# EAGLE library part HSP50214 (library hdsp)
Digital receiver chip
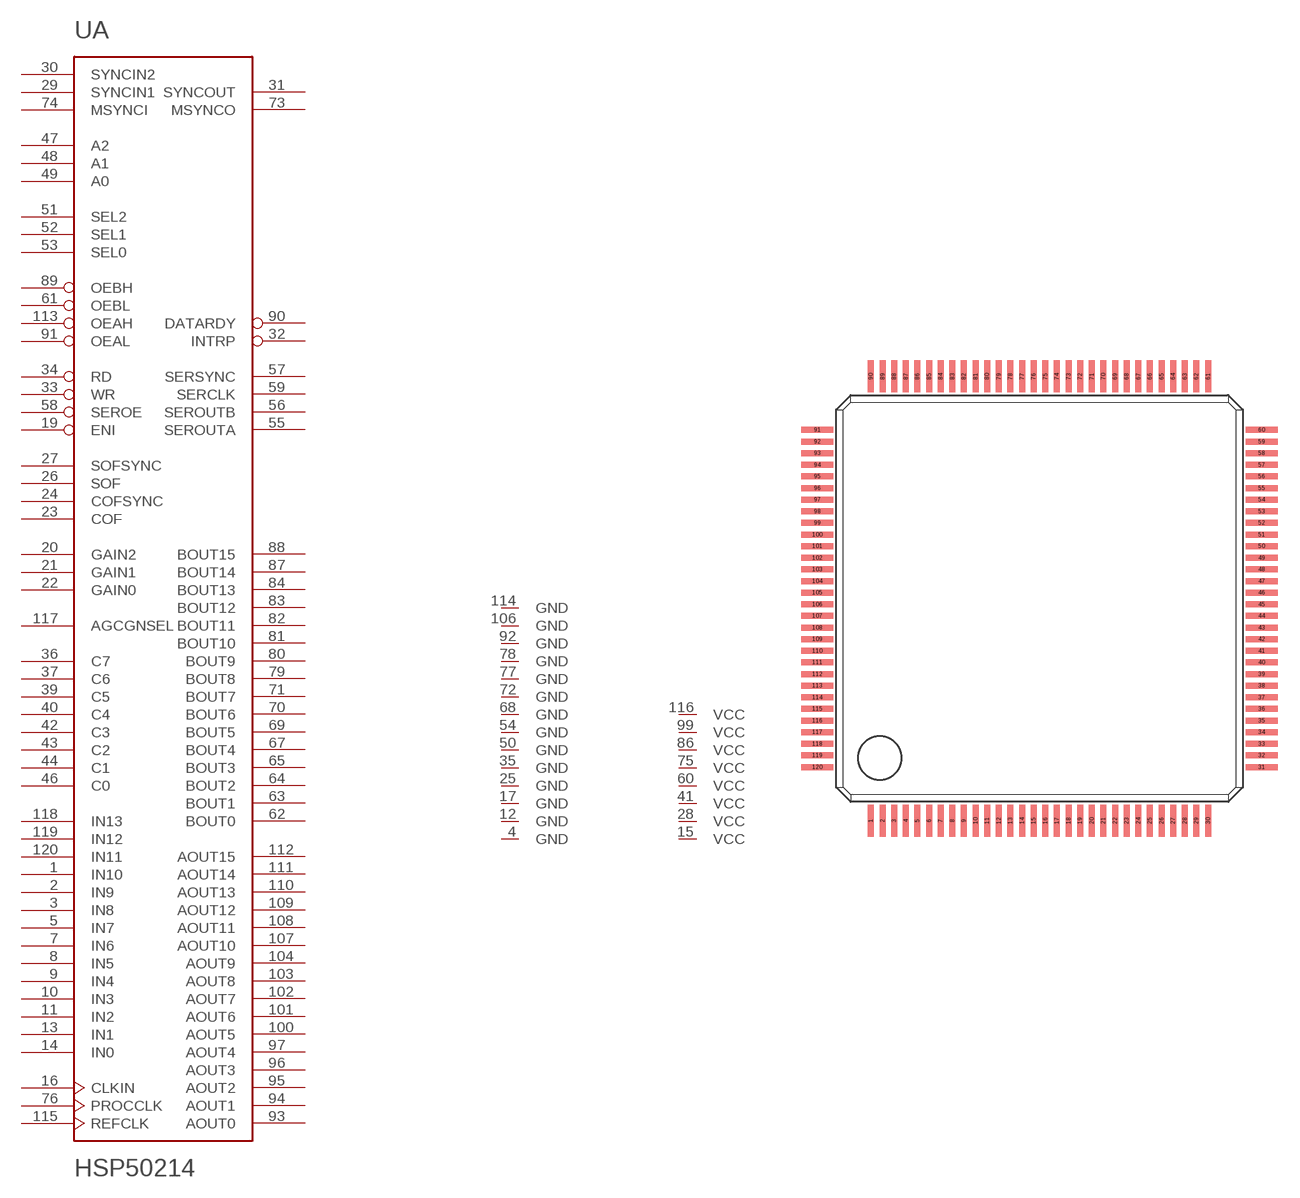
[diagram p0: symbol with the pads of QFP-120; footprint QFP-120]

Designator prefix U; gates A=HSP50214 P=P14-8

## HSP50214  [QFP-120]
1  A:IN10  in
2  A:IN9  in
3  A:IN8  in
4  P:GND  pwr
5  A:IN7  in
7  A:IN6  in
8  A:IN5  in
9  A:IN4  in
10  A:IN3  in
11  A:IN2  in
12  P:GND  pwr
13  A:IN1  in
14  A:IN0  in
15  P:VCC  pwr
16  A:CLKIN  in
17  P:GND  pwr
19  A:ENI  in
20  A:GAIN2  in
21  A:GAIN1  in
22  A:GAIN0  in
23  A:COF  in
24  A:COFSYNC  in
25  P:GND  pwr
26  A:SOF  in
27  A:SOFSYNC  in
28  P:VCC  pwr
29  A:SYNCIN1  in
30  A:SYNCIN2  in
31  A:SYNCOUT  out
32  A:INTRP  out
33  A:WR  in
34  A:RD  in
35  P:GND  pwr
36  A:C7
37  A:C6
39  A:C5
40  A:C4
41  P:VCC  pwr
42  A:C3
43  A:C2
44  A:C1
46  A:C0
47  A:A2  in
48  A:A1  in
49  A:A0  in
50  P:GND  pwr
51  A:SEL2  in
52  A:SEL1  in
53  A:SEL0  in
54  P:GND  pwr
55  A:SEROUTA  out
56  A:SEROUTB  out
57  A:SERSYNC  out
58  A:SEROE  in
59  A:SERCLK  out
60  P:VCC  pwr
61  A:OEBL  in
62  A:BOUT0  out
63  A:BOUT1  out
64  A:BOUT2  out
65  A:BOUT3  out
67  A:BOUT4  out
68  P:GND  pwr
69  A:BOUT5  out
70  A:BOUT6  out
71  A:BOUT7  out
72  P:GND  pwr
73  A:MSYNCO  out
74  A:MSYNCI  in
75  P:VCC  pwr
76  A:PROCCLK  in
77  P:GND  pwr
78  P:GND  pwr
79  A:BOUT8  out
80  A:BOUT9  out
81  A:BOUT10  out
82  A:BOUT11  out
83  A:BOUT12  out
84  A:BOUT13  out
86  P:VCC  pwr
87  A:BOUT14  out
88  A:BOUT15  out
89  A:OEBH  in
90  A:DATARDY  out
91  A:OEAL  in
92  P:GND  pwr
93  A:AOUT0  out
94  A:AOUT1  out
95  A:AOUT2  out
96  A:AOUT3  out
97  A:AOUT4  out
99  P:VCC  pwr
100  A:AOUT5  out
101  A:AOUT6  out
102  A:AOUT7  out
103  A:AOUT8  out
104  A:AOUT9  out
106  P:GND  pwr
107  A:AOUT10  out
108  A:AOUT11  out
109  A:AOUT12  out
110  A:AOUT13  out
111  A:AOUT14  out
112  A:AOUT15  out
113  A:OEAH  in
114  P:GND  pwr
115  A:REFCLK  in
116  P:VCC  pwr
117  A:AGCGNSEL  in
118  A:IN13  in
119  A:IN12  in
120  A:IN11  in

## Footprint QFP-120 (pad centres in mm)
smd 0.406 x 2.21: 1 -11.608,-15.291; 2 -10.795,-15.291; 3 -10.008,-15.291; 4 -9.195,-15.291; 5 -8.407,-15.291; 6 -7.595,-15.291; 7 -6.807,-15.291; 8 -5.994,-15.291; 9 -5.207,-15.291; 10 -4.394,-15.291; 11 -3.607,-15.291; 12 -2.794,-15.291; 13 -2.007,-15.291; 14 -1.194,-15.291; 15 -0.406,-15.291; 16 0.406,-15.291; 17 1.194,-15.291; 18 2.007,-15.291; 19 2.794,-15.291; 20 3.607,-15.291; 21 4.394,-15.291; 22 5.207,-15.291; 23 5.994,-15.291; 24 6.807,-15.291; 25 7.595,-15.291; 26 8.407,-15.291; 27 9.195,-15.291; 28 10.008,-15.291; 29 10.795,-15.291; 30 11.608,-15.291; 61 11.608,15.291; 62 10.795,15.291; 63 10.008,15.291; 64 9.195,15.291; 65 8.407,15.291; 66 7.595,15.291; 67 6.807,15.291; 68 5.994,15.291; 69 5.207,15.291; 70 4.394,15.291; 71 3.607,15.291; 72 2.794,15.291; 73 2.007,15.291; 74 1.194,15.291; 75 0.406,15.291; 76 -0.406,15.291; 77 -1.194,15.291; 78 -2.007,15.291; 79 -2.794,15.291; 80 -3.607,15.291; 81 -4.394,15.291; 82 -5.207,15.291; 83 -5.994,15.291; 84 -6.807,15.291; 85 -7.595,15.291; 86 -8.407,15.291; 87 -9.195,15.291; 88 -10.008,15.291; 89 -10.795,15.291; 90 -11.608,15.291
smd 2.21 x 0.406: 31 15.291,-11.608; 32 15.291,-10.795; 33 15.291,-10.008; 34 15.291,-9.195; 35 15.291,-8.407; 36 15.291,-7.595; 37 15.291,-6.807; 38 15.291,-5.994; 39 15.291,-5.207; 40 15.291,-4.394; 41 15.291,-3.607; 42 15.291,-2.794; 43 15.291,-2.007; 44 15.291,-1.194; 45 15.291,-0.406; 46 15.291,0.406; 47 15.291,1.194; 48 15.291,2.007; 49 15.291,2.794; 50 15.291,3.607; 51 15.291,4.394; 52 15.291,5.207; 53 15.291,5.994; 54 15.291,6.807; 55 15.291,7.595; 56 15.291,8.407; 57 15.291,9.195; 58 15.291,10.008; 59 15.291,10.795; 60 15.291,11.608; 91 -15.291,11.608; 92 -15.291,10.795; 93 -15.291,10.008; 94 -15.291,9.195; 95 -15.291,8.407; 96 -15.291,7.595; 97 -15.291,6.807; 98 -15.291,5.994; 99 -15.291,5.207; 100 -15.291,4.394; 101 -15.291,3.607; 102 -15.291,2.794; 103 -15.291,2.007; 104 -15.291,1.194; 105 -15.291,0.406; 106 -15.291,-0.406; 107 -15.291,-1.194; 108 -15.291,-2.007; 109 -15.291,-2.794; 110 -15.291,-3.607; 111 -15.291,-4.394; 112 -15.291,-5.207; 113 -15.291,-5.994; 114 -15.291,-6.807; 115 -15.291,-7.595; 116 -15.291,-8.407; 117 -15.291,-9.195; 118 -15.291,-10.008; 119 -15.291,-10.795; 120 -15.291,-11.608